# Altium integrated library ARM_Libary_AUDIO.IntLib: 13 symbols
Pins are listed as number, name and electrical type; pins without a type are passive.

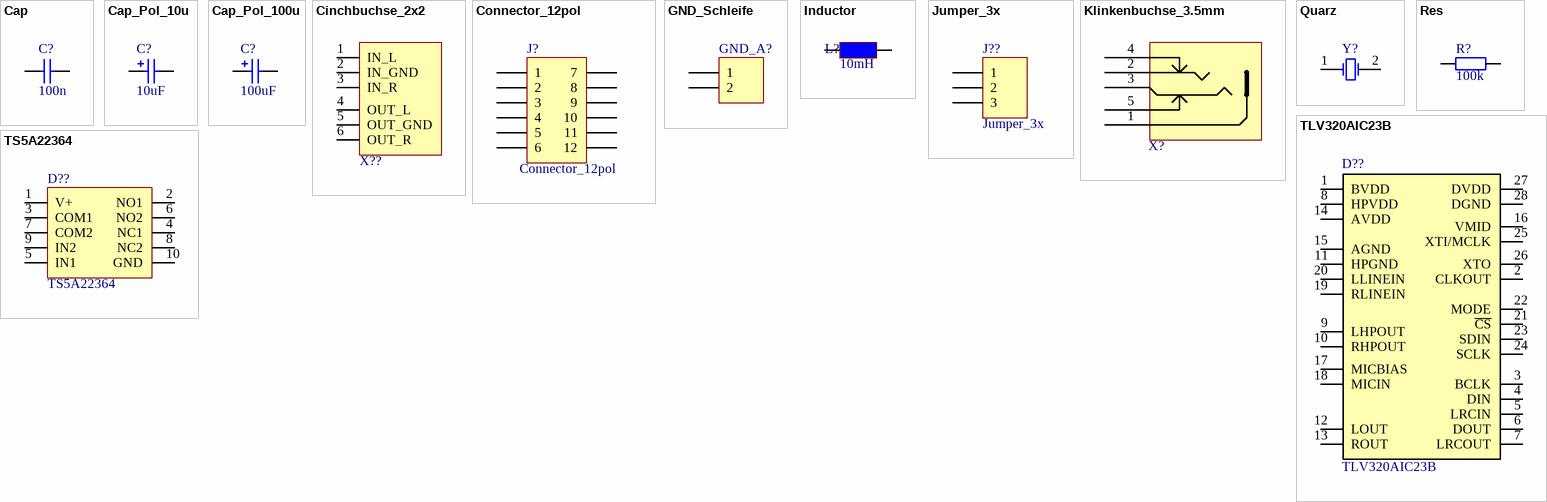
[diagram p0: symbols Cap to TS5A22364]

## Cap
designator C?  value 100n  (hidden comment: Cap)
Capacitor; Published: 8-Jun-2000; LatestRevisionDate: 17-Jul-2002; LatestRevisionNote: Re-released for DXP Platform.; PackageReference: RAD-0.3; Publisher: Altium Limited
simulation model CAP (Capacitor)
signal-integrity model Cap
footprint 0805 (0805 Footprint 2x1.25mm)
pins: 1, 2

## Cap_Pol_10u
designator C?  value 10uF  (hidden comment: Cap_Pol_10u)
Polarized Capacitor 10µF/16V; Published: 8-Jun-2000; LatestRevisionDate: 17-Jul-2002; LatestRevisionNote: Re-released for DXP Platform.; PackageReference: RB7.6-15; Publisher: Altium Limited
simulation model CAP (Capacitor)
signal-integrity model Cap Pol
footprint 10µF_16V_Kondensator
pins: 1, 2
1 alternate drawing of the same symbol

## Cap_Pol_100u
designator C?  value 100uF  (hidden comment: Cap_Pol_100u)
Polarized Capacitor 100µF/16V; Published: 8-Jun-2000; LatestRevisionDate: 17-Jul-2002; LatestRevisionNote: Re-released for DXP Platform.; PackageReference: RB7.6-15; Publisher: Altium Limited
simulation model CAP (Capacitor)
signal-integrity model Cap Pol
footprint 100µF_16V_Kondensator
pins: 1, 2
1 alternate drawing of the same symbol

## Cinchbuchse_2x2
designator X??  (value not drawn)
Cinch-Einbaubuchse 4-polig Printausführung 90°
footprint Chinchbuchse_2x2
pins: 1 IN_L, 2 IN_GND, 3 IN_R, 4 OUT_L, 5 OUT_GND, 6 OUT_R

## Connector_12pol
designator J?
Header, 6-Pin, Dual row; LatestRevisionDate: 17-Jul-2002; LatestRevisionNote: Re-released for DXP Platform.; Publisher: Altium Limited
signal-integrity model Connector
footprint 12pol_Verbindungsstecker
pins: 1, 2, 3, 4, 5, 6, 7, 8, 9, 10, 11, 12

## GND_Schleife
designator GND_A?  (value not drawn)
Header, 2-Pin; LatestRevisionDate: 17-Jul-2002; LatestRevisionNote: Re-released for DXP Platform.; Publisher: Altium Limited
signal-integrity model Connector
footprint GND_Schleife (Connector; Header; 2 Position)
pins: 1, 2

## Inductor
designator L?  value 10mH  (hidden comment: Inductor)
Code_IEC: 1005; Published: 8-Jun-2000; LatestRevisionDate: 17-Jul-2002; LatestRevisionNote: Re-released for DXP Platform.; PackageReference: 0402-A; Publisher: Altium Limited; Code_JEITA: 0402
simulation model INDUCTOR (Inductor)
signal-integrity model Inductor
footprint 0805 (0805 Footprint 2x1.25mm)
pins: 1, 2

## Jumper_3x
designator J??
Header, 3-Pin; LatestRevisionDate: 17-Jul-2002; LatestRevisionNote: Re-released for DXP Platform.; Publisher: Altium Limited
signal-integrity model Connector
footprint Jumper_3X
pins: 1, 2, 3

## Klinkenbuchse_3.5mm
designator X?, comment Line_In_Line_Out  (value not drawn)
3.5mm Klinke
footprint 3.5mm_Klinke
pins: 1, 2, 3, 4, 5

## Quarz
designator Y?  (value not drawn)
Crystal Oscillator; Published: 8-Jun-2000; LatestRevisionDate: 17-Jul-2002; LatestRevisionNote: Re-released for DXP Platform.; PackageReference: R38; Publisher: Altium Limited
footprint 12MHz_Quarz
pins: 1 OSC1, 2 OSC2

## Res
designator R?  value 100k  (hidden comment: Res)
Resistor; Published: 8-Jun-2000; LatestRevisionDate: 17-Jul-2002; LatestRevisionNote: Re-released for DXP Platform.; PackageReference: AXIAL-0.4; Publisher: Altium Limited
simulation model RESISTOR (Resistor)
signal-integrity model Res
footprint 0805 (0805 Footprint 2x1.25mm)
pins: 1, 2

## TLV320AIC23B
designator D??
Stereo Audio CODEC; HelpUrl: http://www.ti.com/lit/ds/symlink/tlv320aic23.pdf
footprint TLV320AIC23B (TSOP, 28-Leads, Body 9,8x4,5mm (max), Pitch 0,65mm, IPC Medium Density, AudioCodec)
pins: 1 BVDD, 2 CLKOUT, 3 BCLK, 4 DIN, 5 LRCIN, 6 DOUT, 7 LRCOUT, 8 HPVDD, 9 LHPOUT, 10 RHPOUT, 11 HPGND, 12 LOUT, 13 ROUT, 14 AVDD, 15 AGND, 16 VMID, 17 MICBIAS, 18 MICIN, 19 RLINEIN, 20 LLINEIN, 21 ~{CS}, 22 MODE, 23 SDIN, 24 SCLK, 25 XTI/MCLK, 26 XTO, 27 DVDD, 28 DGND

## TS5A22364
designator D??
Analog Switch; HelpUrl: http://www.ti.com/lit/ds/symlink/ts5a22364.pdf
footprint TS5A22364 (TSSOP, 10-Leads, Body 3,1x3,1mm (max), Pitch 0,50mm, IPC Medium Density, Analog Switch)
pins: 1 V+, 2 NO1, 3 COM1, 4 NC1, 5 IN1, 6 NO2, 7 COM2, 8 NC2, 9 IN2, 10 GND